# Altium footprint library Mylibr.PcbLib: 102 footprints (part 1 of 7)
Each footprint in its own frame and in the unit in brackets; x right, y up, seen from the top. Pads: shape width x height; smd on the part's side, far side on the other; paste and mask are expansions set on the pad; w line width, h text height; cw(c..) or ccw(c..) is an arc to the next point about the centre after c.
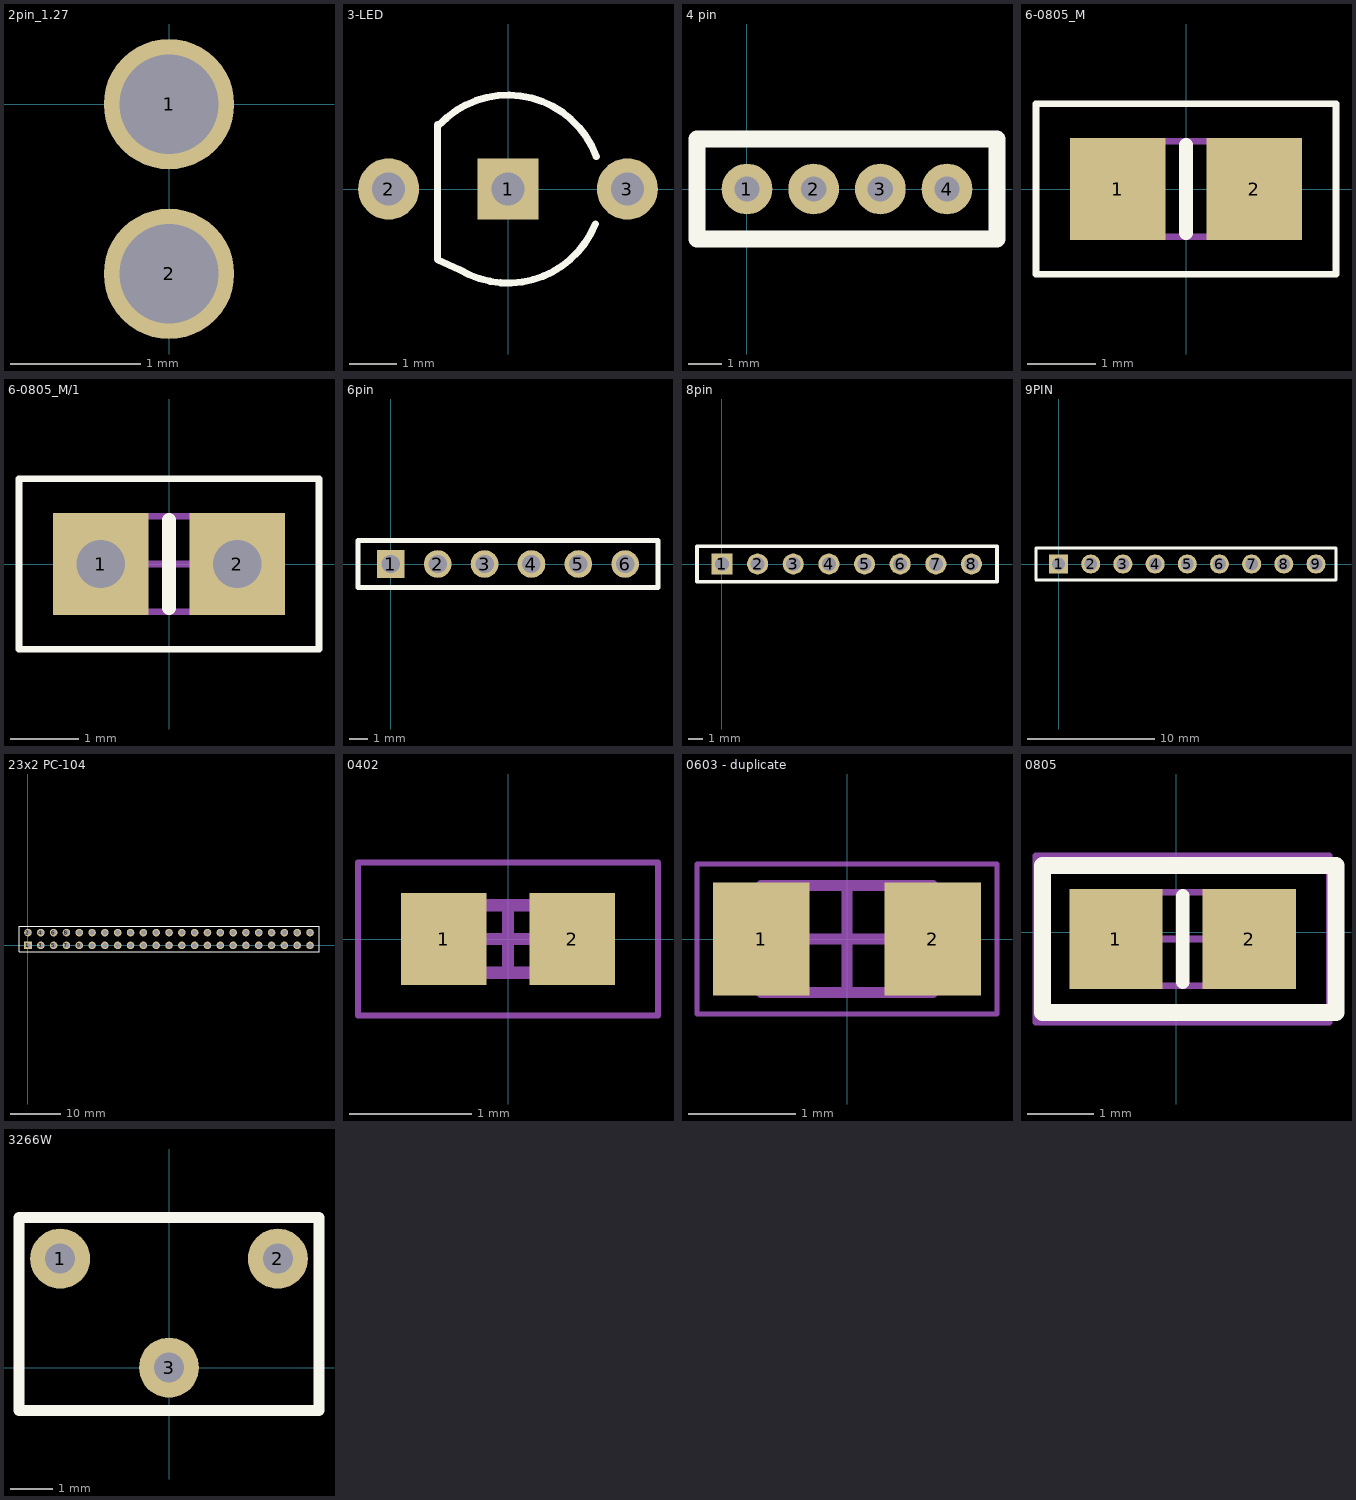
[diagram p0: the footprints below, top view; thin cyan lines are the x and y axes]

## 2pin_1.27 [mm]
pads (2):
  round 1 hole 0.762: 1(0,0) 2(0,-1.3)

## 3-LED [mm]
pads (3):
  rect 1.3x1.3 hole 0.7: 1(0,0)
  round 1.3 hole 0.7: 2(-2.54,0) 3(2.54,0)
Top Overlay:
  lines w0.15: -1.5,1.372 -1.5,-1.5 -1.029,-1.715 ccw(c0,0) 1.857,-0.743 ; -1.476,1.35 cw(c0,0) 1.877,0.691

## 4 pin [mil]
pads (4):
  round 60 hole 30 square: 1(0,0)
  round 60 hole 30: 2(78.74,0) 3(157.48,0) 4(236.22,0)
Top Overlay:
  lines w19.68: -59.06,-59.06 -59.06,59.06 295.28,59.06 295.28,-59.06 -59.06,-59.06

## 6-0805_M [mm]
pads (2):
  rect 1.4x1.5 smd: 1(-1,0) 2(1,0)
Top Overlay:
  lines w0.1: -2.2,-1.25 2.2,-1.25 2.2,1.25 -2.2,1.25 -2.2,-1.25
  lines w0.2: 0,-0.65 0,0.65
Mechanical 13:
  lines w0.1: -1.075,-0.7 -1.075,0.7 1.075,0.7 1.075,-0.7 -1.075,-0.7
3D body: height 0.7, standoff 0, extent -1.075,-0.7 1.075,0.7

## 6-0805_M/1 [mm]
pads (2):
  rect 1.4x1.5 smd: 1(-1,0) 2(1,0)
via 1,0 diameter 1.27 hole 0.711
via -1,0 diameter 1.27 hole 0.711
Top Overlay:
  lines w0.1: -2.2,-1.25 2.2,-1.25 2.2,1.25 -2.2,1.25 -2.2,-1.25
  lines w0.2: 0,-0.65 0,0.65
Mechanical 13:
  lines w0.1: -1.075,-0.7 -1.075,0.7 1.075,0.7 1.075,-0.7 -1.075,-0.7
Mechanical 15:
  lines w0.1: -0.5,0 0.5,0 ; 0,-0.5 0,0.5
3D body: height 0.7, standoff 0, extent -1.075,-0.65 1.075,0.75

## 6pin [mm]
pads (6):
  rect 1.5x1.5 hole 1: 1(0,0)
  round 1.5 hole 1: 2(2.54,0) 3(5.08,0) 4(7.62,0) 5(10.16,0) 6(12.7,0)
Top Overlay:
  lines w0.254: -1.78,-1.27 -1.78,1.27 14.478,1.27 14.478,-1.27 -1.78,-1.27
Bottom Overlay:
  lines w0.2: -1.78,-1.27 14.478,-1.27 14.478,1.27 -1.78,1.27 ; -1.778,-1.27 -1.778,1.27

## 8pin [mm]
pads (8):
  rect 1.5x1.5 hole 1: 1(0,0)
  round 1.5 hole 1: 2(2.54,0) 3(5.08,0) 4(7.62,0) 5(10.16,0) 6(12.7,0) 7(15.24,0) 8(17.78,0)
Top Overlay:
  lines w0.254: -1.78,1.27 19.6,1.27 19.6,-1.27 -1.776,-1.27 -1.778,-1.268 -1.778,1.27
Bottom Overlay:
  lines w0.2: -1.78,-1.27 19.6,-1.27 19.6,1.27 -1.78,1.27 ; -1.778,-1.27 -1.778,1.27

## 9PIN [mm]
pads (9):
  rect 1.5x1.5 hole 1: 1(0,0)
  round 1.5 hole 1: 2(2.54,0) 3(5.08,0) 4(7.62,0) 5(10.16,0) 6(12.7,0) 7(15.24,0) 8(17.78,0) 9(20.32,0)
Top Overlay:
  lines w0.254: -1.78,1.27 21.9,1.27 21.9,-1.27 -1.776,-1.27 -1.778,-1.268 -1.778,1.27
Bottom Overlay:
  lines w0.2: -1.78,-1.27 21.9,-1.27 21.9,1.27 -1.78,1.27 ; -1.778,-1.27 -1.778,1.27

## 23x2 PC-104 [mm]
pads (46):
  rect 1.5x1.5 hole 1: 1(0,0)
  round 1.5 hole 1: 2(0,2.54) 3(2.54,0) 4(2.54,2.54) 5(5.08,0) 6(5.08,2.54) 7(7.62,0) 8(7.62,2.54) 9(10.16,0) 10(10.16,2.54) 11(12.7,0) 12(12.7,2.54) 13(15.24,0) 14(15.24,2.54) 15(17.78,0) 16(17.78,2.54) 17(20.32,0) 18(20.32,2.54) 19(22.86,0) 20(22.86,2.54) 21(25.4,0) 22(25.4,2.54) 23(27.94,0) 24(27.94,2.54) 25(30.48,0) 26(30.48,2.54) 27(33.02,0) 28(33.02,2.54) 29(35.56,0) 30(35.56,2.54) 31(38.1,0) 32(38.1,2.54) 33(40.64,0) 34(40.64,2.54) 35(43.18,0) 36(43.18,2.54) 37(45.72,0) 38(45.72,2.54) 39(48.26,0) 40(48.26,2.54) 41(50.8,0) 42(50.8,2.54) 43(53.34,0) 44(53.34,2.54) 45(55.88,0) 46(55.88,2.54)
Top Overlay:
  lines w0.2: -1.78,-1.27 57.658,-1.27 57.658,3.81 -1.78,3.81 ; -1.778,-1.27 -1.778,3.81
Bottom Overlay:
  lines w0.2: -1.78,-1.27 57.658,-1.27 57.658,3.81 -1.78,3.81 ; -1.778,-1.27 -1.778,3.81

## 0402 [mm] "MELF Resistor, 2-Leads, Body 1,05x0,53mm, IPC Medium Density"
height 0.55
pads (2):
  rect 0.7x0.75 smd: 1(-0.525,0) 2(0.525,0)
Mechanical 13:
  lines w0.1: -0.55,-0.275 0.55,-0.275 0.55,0.275 -0.55,0.275 -0.55,-0.275
Mechanical 15:
  lines w0.05: -1.225,-0.625 1.225,-0.625 1.225,0.625 -1.225,0.625 -1.225,-0.625
  lines w0.1: -0.275,0 0.275,0 ; 0,-0.275 0,0.275
3D body: height 0.55, standoff 0, extent 0.25,-0.275 0.55,0.274
3D body: height 0.53, standoff 0.04, extent -0.25,-0.245 0.25,0.244
3D body: height 0.55, standoff 0, extent -0.55,-0.275 -0.25,0.274

## 0402_CON [mm]

## 0402_RES [mm]

## 0603 [mm]

## 0603 - duplicate [mm] "Chip Resistor, 2-Leads, Body 1,40x0,80mm, IPC Medium Density"
height 0.9
pads (2):
  rect 0.9x1.05 smd: 1(-0.8,0) 2(0.8,0)
Mechanical 13:
  lines w0.1: -0.8,-0.5 0.8,-0.5 0.8,0.5 -0.8,0.5 -0.8,-0.5
Mechanical 15:
  lines w0.05: -1.4,-0.7 1.4,-0.7 1.4,0.7 -1.4,0.7 -1.4,-0.7
  lines w0.1: -0.5,0 0.5,0 ; 0,-0.5 0,0.5
3D body: height 0.9, standoff 0, extent 0.55,-0.5 0.8,0.5
3D body: height 0.9, standoff 0, extent -0.8,-0.5 -0.55,0.5
3D body: height 0.9, standoff 0, extent -0.55,-0.5 0.55,0.5

## 0805 [mm]
pads (2):
  rect 1.4x1.5 smd: 1(-0.9,-0.1) 2(1.1,-0.1)
Top Overlay:
  lines w0.2: 0.1,-0.75 0.1,0.55
  lines w0.254: -2,-1.2 2.4,-1.2 2.4,1 -2,1 -2,-1.2
Mechanical 13:
  lines w0.1: -0.975,-0.8 -0.975,0.6 1.175,0.6 1.175,-0.8 -0.975,-0.8
Mechanical 15:
  lines w0.1: -0.4,-0.1 0.6,-0.1 ; 0.1,-0.6 0.1,0.4 ; -2.1,-1.35 -2.1,1.15 2.3,1.15 2.3,-1.35 -2.1,-1.35
3D body: height 0.7, standoff 0, extent -0.975,-0.8 1.175,0.6

## 3266W [mm]
pads (3):
  round 1.4 hole 0.7: 1(-2.54,2.54) 2(2.54,2.54) 3(0,0)
Top Overlay:
  lines w0.254: -3.5,-1 -3.5,3.5 3.5,3.5 3.5,-1 -3.5,-1